# Altium schematic symbol library AP22653AFDZ-7.SchLib: 1 symbol
Pins are listed as number, name and electrical type; pins without a type are passive.

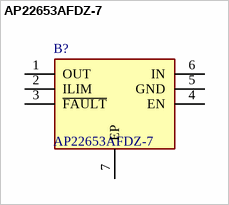
[diagram p0: symbol AP22653AFDZ-7]

## AP22653AFDZ-7
designator B?
Power Switch ICs - Power Distribution Load Switch W-DFN2020-6 T&R 3K; Manufacturer_Name: Diodes Incorporated; Geometry.Height: 0.8mm; Mouser Part Number: 621-AP22653AFDZ-7; Mouser Price/Stock: https://www.mouser.co.uk/ProductDetail/Diodes-Incorporated/AP22653AFDZ-7?qs=W%2FMpXkg%252BdQ5j0cis9bApsQ%3D%3D; Manufacturer_Part_Number: AP22653AFDZ-7; Datasheet Link: https://www.diodes.com//assets/Datasheets/AP22652_53_52A_53A.pdf
footprint SON65P200X200X80-7N
pins: 1 OUT, 2 ILIM, 3 ~{FAULT}, 4 EN, 5 GND, 6 IN, 7 EP